# Altium schematic symbol library TC2050.SchLib: 1 symbol
Pins are listed as number, name and electrical type; pins without a type are passive.

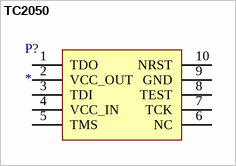
[diagram p0: symbol TC2050]

## TC2050
designator P?
Value: *
pins: 1 TDO, 2 VCC_OUT, 3 TDI, 4 VCC_IN, 5 TMS, 6 NC, 7 TCK, 8 TEST, 9 GND, 10 NRST